# Altium schematic symbol library LogicalUnits.SchLib: 41 symbols
Pins are listed as number, name and electrical type; pins without a type are passive.

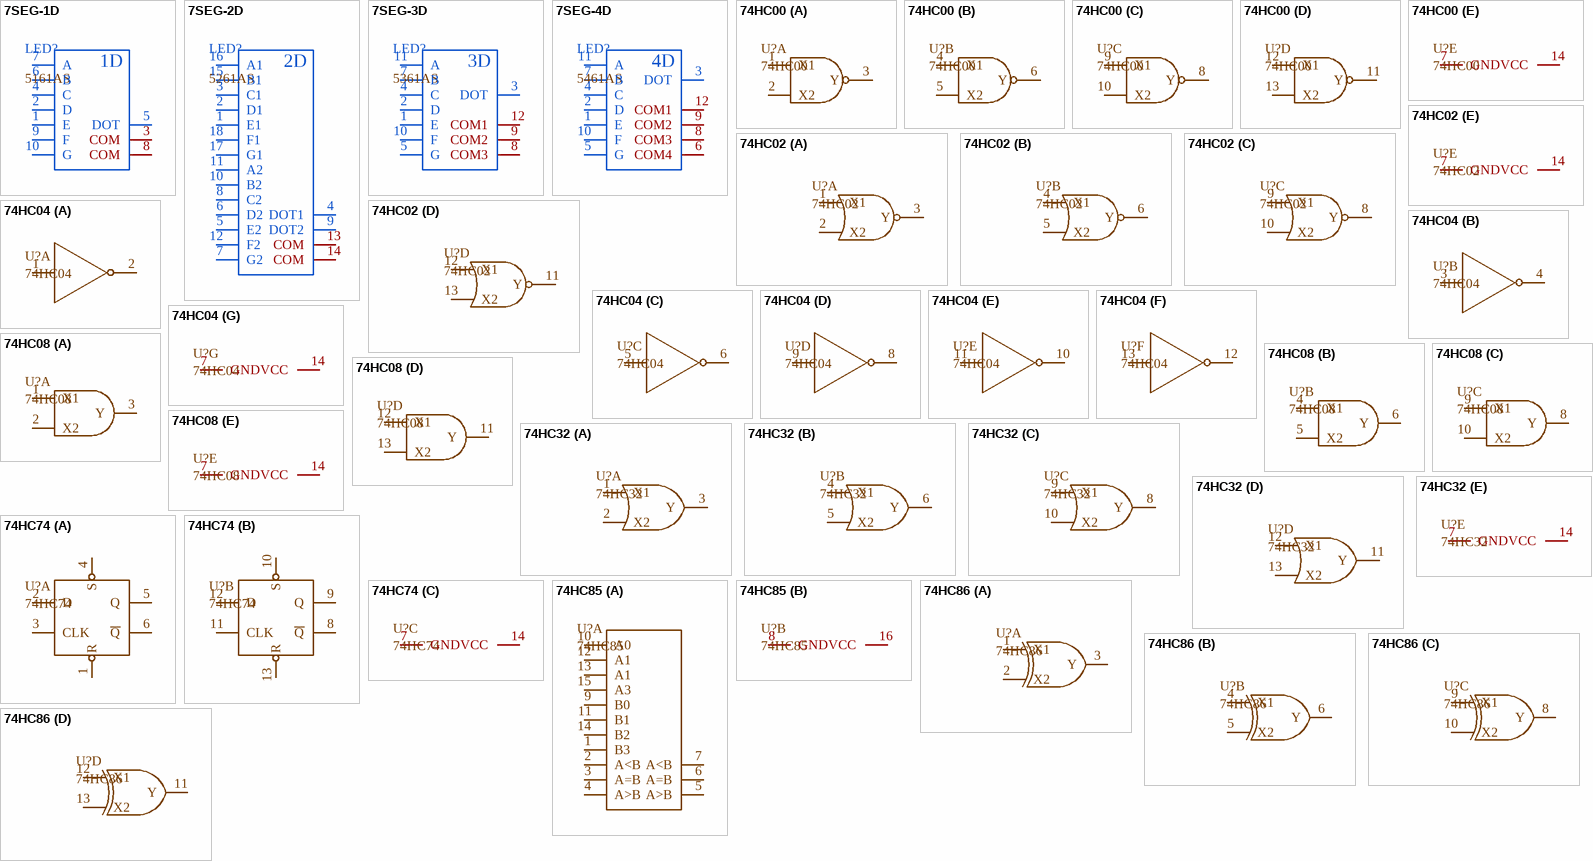
[diagram p0: symbols 7SEG-1D to 74HC86]

## 7SEG-1D
designator LED?, comment 5161AS
7SEG; Name: 5161AS; Case: DNP; Part Number: N/A
footprint 7SEG-0.56INCH-1D
pins: 1 E, 2 D, 3 COM, 4 C, 5 DOT, 6 B, 7 A, 8 COM, 9 F, 10 G
text: 1D

## 7SEG-2D
designator LED?, comment 5261AS
7SEG; Name: 5261AS; Case: DNP; Part Number: N/A
footprint 7SEG-0.56INCH-2D
pins: 1 E1, 2 D1, 3 C1, 4 DOT1, 5 E2, 6 D2, 7 G2, 8 C2, 9 DOT2, 10 B2, 11 A2, 12 F2, 13 COM, 14 COM, 15 B1, 16 A1, 17 G1, 18 F1
text: 2D

## 7SEG-3D
designator LED?, comment 5361AS
7SEG; Name: 5361AS; Case: DNP; Part Number: N/A
footprint 7SEG-0.56INCH-3D
pins: 1 E, 2 D, 3 DOT, 4 C, 5 G, 7 B, 8 COM3, 9 COM2, 10 F, 11 A, 12 COM1
text: 3D

## 7SEG-4D
designator LED?, comment 5461AS
7SEG; Name: 5461AS; Case: DNP; Part Number: N/A
footprint 7SEG-0.56INCH-4D
pins: 1 E, 2 D, 3 DOT, 4 C, 5 G, 6 COM4, 7 B, 8 COM3, 9 COM2, 10 F, 11 A, 12 COM1
text: 4D

## 74HC00
designator U?
NAND; Name: 74HC00; Case: DNP; Part Number: N/A
footprint SOIC14
footprint DIP14
part A pins: 1 X1, 2 X2, 3 Y
part B pins: 4 X1, 5 X2, 6 Y
part C pins: 8 Y, 9 X1, 10 X2
part D pins: 11 Y, 12 X1, 13 X2
part E pins: 7 GND, 14 VCC

## 74HC02
designator U?
NOR; Name: 74HC02; Case: DNP; Part Number: N/A
footprint SOIC14
footprint DIP14
part A pins: 1 X1, 2 X2, 3 Y
part B pins: 4 X1, 5 X2, 6 Y
part C pins: 8 Y, 9 X1, 10 X2
part D pins: 11 Y, 12 X1, 13 X2
part E pins: 7 GND, 14 VCC

## 74HC04
designator U?
NOT; Name: 74HC04; Case: DNP; Part Number: N/A
footprint SOIC14
footprint DIP14
part A pins: 1 X, 2 Y
part B pins: 3 X, 4 Y
part C pins: 5 X, 6 Y
part D pins: 8 Y, 9 X
part E pins: 10 Y, 11 X
part F pins: 12 Y, 13 X
part G pins: 7 GND, 14 VCC

## 74HC08
designator U?
AND; Name: 74HC08; Case: DNP; Part Number: N/A
footprint DIP14
footprint SOIC14
part A pins: 1 X1, 2 X2, 3 Y
part B pins: 4 X1, 5 X2, 6 Y
part C pins: 8 Y, 9 X1, 10 X2
part D pins: 11 Y, 12 X1, 13 X2
part E pins: 7 GND, 14 VCC

## 74HC32
designator U?
OR; Name: 74HC32; Case: DNP; Part Number: N/A
footprint SOIC14
footprint DIP14
part A pins: 1 X1, 2 X2, 3 Y
part B pins: 4 X1, 5 X2, 6 Y
part C pins: 8 Y, 9 X1, 10 X2
part D pins: 11 Y, 12 X1, 13 X2
part E pins: 7 GND, 14 VCC

## 74HC74
designator U?
TRIG; Name: 74HC74; Case: DNP; Part Number: N/A
footprint SOIC14
footprint DIP14
part A pins: 1 R, 2 D, 3 CLK, 4 S, 5 Q, 6 ~{Q}
part B pins: 8 ~{Q}, 9 Q, 10 S, 11 CLK, 12 D, 13 R
part C pins: 7 GND, 14 VCC

## 74HC85
designator U?
COMP; Name: 74HC85; Case: DNP; Part Number: N/A
footprint DIP16
footprint SOIC16
part A pins: 1 B3, 2 A<B, 3 A=B, 4 A>B, 5 A>B, 6 A=B, 7 A<B, 9 B0, 10 A0, 11 B1, 12 A1, 13 A1, 14 B2, 15 A3
part B pins: 8 GND, 16 VCC

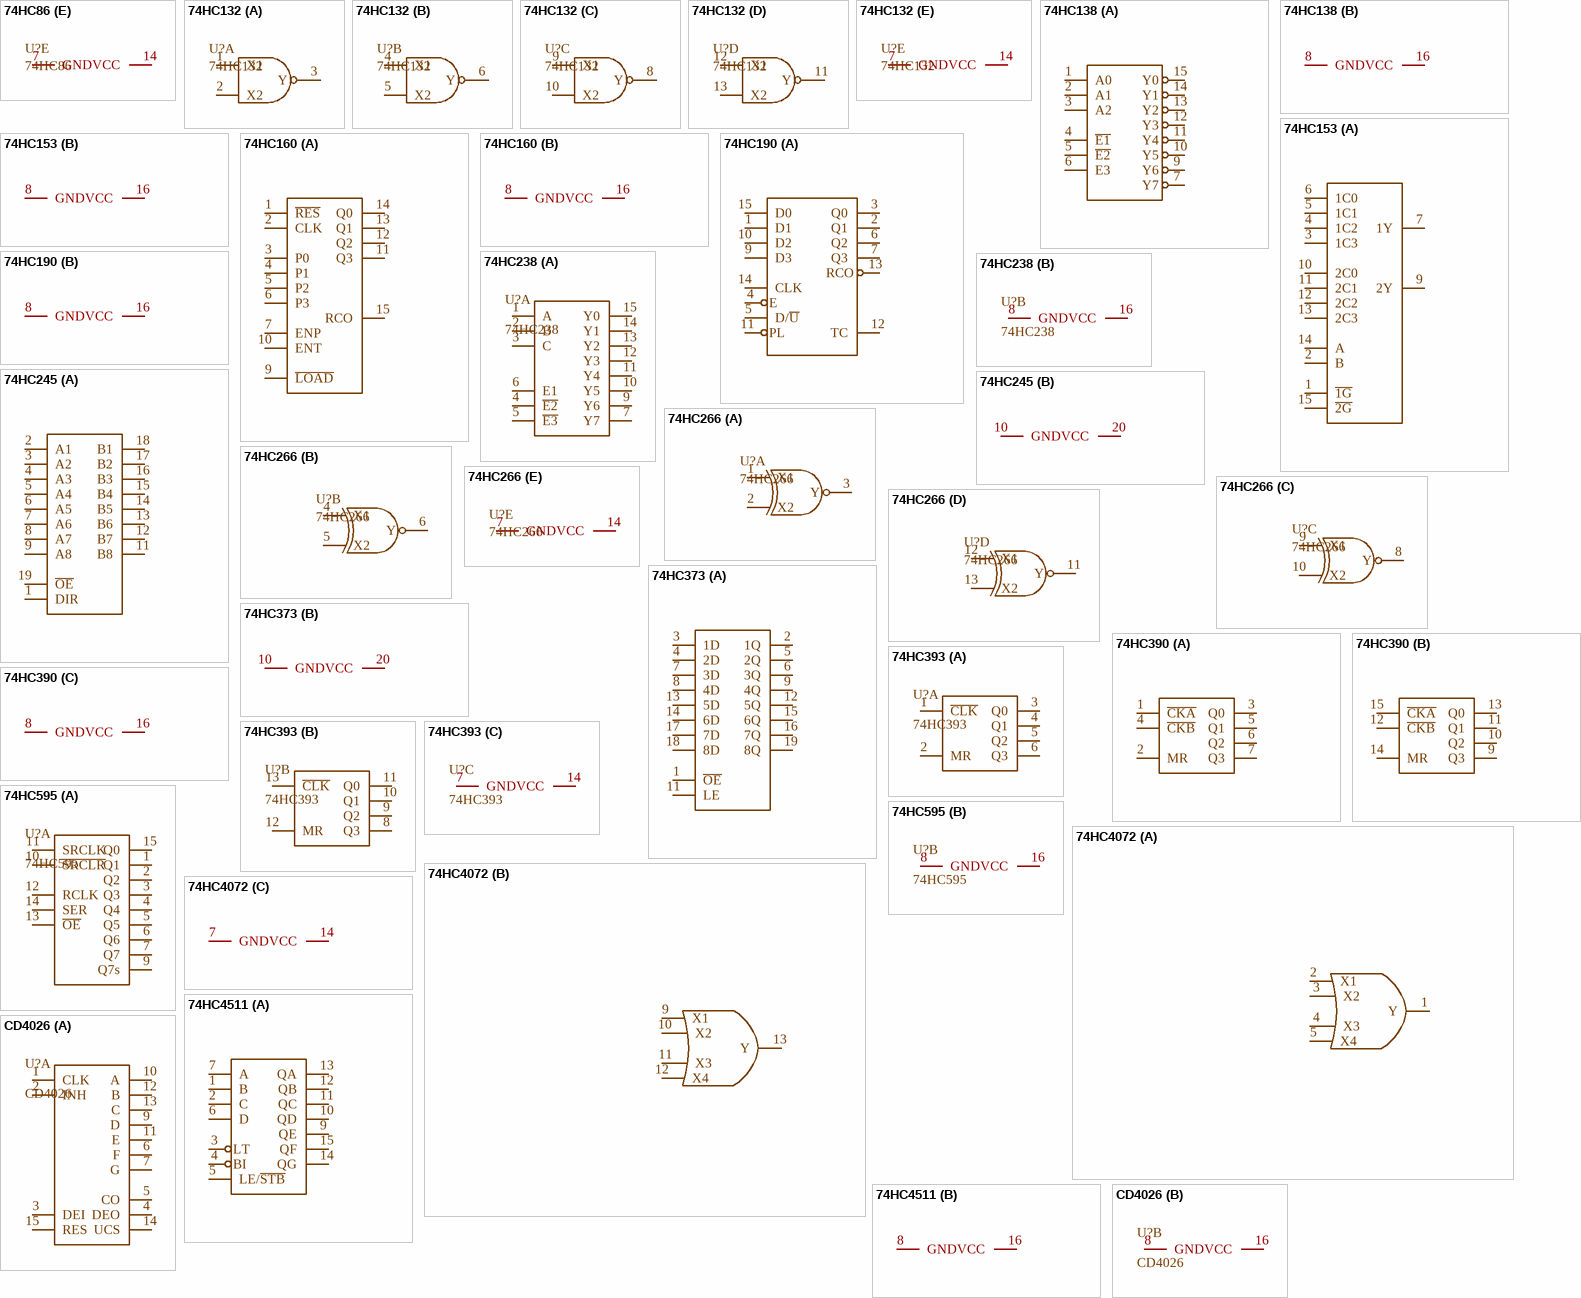
[diagram p1: symbols 74HC86 to CD4026]

## 74HC86
designator U?
XOR; Name: 74HC86; Case: DNP; Part Number: N/A
footprint SOIC14
footprint DIP14
part A pins: 1 X1, 2 X2, 3 Y
part B pins: 4 X1, 5 X2, 6 Y
part C pins: 8 Y, 9 X1, 10 X2
part D pins: 11 Y, 12 X1, 13 X2
part E pins: 7 GND, 14 VCC

## 74HC132
designator U?
NAND; Name: 74HC132; Case: DNP; Part Number: N/A
footprint SOIC14
footprint DIP14
part A pins: 1 X1, 2 X2, 3 Y
part B pins: 4 X1, 5 X2, 6 Y
part C pins: 8 Y, 9 X1, 10 X2
part D pins: 11 Y, 12 X1, 13 X2
part E pins: 7 GND, 14 VCC

## 74HC138
designator U?
DC; Name: 74HC138; Case: DNP; Part Number: N/A
footprint DIP16
footprint SOIC16
part A pins: 1 A0, 2 A1, 3 A2, 4 ~{E1}, 5 ~{E2}, 6 E3, 7 Y7, 9 Y6, 10 Y5, 11 Y4, 12 Y3, 13 Y2, 14 Y1, 15 Y0
part B pins: 8 GND, 16 VCC

## 74HC153
designator U?
MUX; Name: 74HC153; Case: DNP; Part Number: N/A
footprint SOIC16
footprint DIP16
part A pins: 1 ~{1G}, 2 B, 3 1C3, 4 1C2, 5 1C1, 6 1C0, 7 1Y, 9 2Y, 10 2C0, 11 2C1, 12 2C2, 13 2C3, 14 A, 15 ~{2G}
part B pins: 8 GND, 16 VCC

## 74HC160
designator U?
CNT; Name: 74HC160; Case: DNP; Part Number: N/A
footprint SOIC16
footprint DIP16
part A pins: 1 ~{RES}, 2 CLK, 3 P0, 4 P1, 5 P2, 6 P3, 7 ENP, 9 ~{LOAD}, 10 ENT, 11 Q3, 12 Q2, 13 Q1, 14 Q0, 15 RCO
part B pins: 8 GND, 16 VCC

## 74HC190
designator U?
CNT; Name: 74HC190; Case: DNP; Part Number: N/A
footprint SOIC16
footprint DIP16
part A pins: 1 D1, 2 Q1, 3 Q0, 4 E, 5 D/~{U}, 6 Q2, 7 Q3, 9 D3, 10 D2, 11 PL, 12 TC, 13 RCO, 14 CLK, 15 D0
part B pins: 8 GND, 16 VCC

## 74HC238
designator U?
DC; Name: 74HC238; Case: DNP; Part Number: N/A
footprint DIP16
footprint SOIC16
part A pins: 1 A, 2 B, 3 C, 4 ~{E2}, 5 ~{E3}, 6 E1, 7 Y7, 9 Y6, 10 Y5, 11 Y4, 12 Y3, 13 Y2, 14 Y1, 15 Y0
part B pins: 8 GND, 16 VCC

## 74HC245
designator U?
LAT; Name: 74HC245; Case: DNP; Part Number: N/A
footprint DIP20
footprint SOIC20 (Footprint not found)
footprint TSSOP20
part A pins: 1 DIR, 2 A1, 3 A2, 4 A3, 5 A4, 6 A5, 7 A6, 8 A7, 9 A8, 11 B8, 12 B7, 13 B6, 14 B5, 15 B4, 16 B3, 17 B2, 18 B1, 19 ~{OE}
part B pins: 10 GND, 20 VCC

## 74HC266
designator U?
NXOR; Name: 74HC266; Case: DNP; Part Number: N/A
footprint SOIC14
footprint DIP14
part A pins: 1 X1, 2 X2, 3 Y
part B pins: 4 X1, 5 X2, 6 Y
part C pins: 8 Y, 9 X1, 10 X2
part D pins: 11 Y, 12 X1, 13 X2
part E pins: 7 GND, 14 VCC

## 74HC373
designator U?
LAT; Name: 74HC373; Case: DNP; Part Number: N/A
footprint SOIC20 (Footprint not found)
footprint DIP20
footprint TSSOP20
part A pins: 1 ~{OE}, 2 1Q, 3 1D, 4 2D, 5 2Q, 6 3Q, 7 3D, 8 4D, 9 4Q, 11 LE, 12 5Q, 13 5D, 14 6D, 15 6Q, 16 7Q, 17 7D, 18 8D, 19 8Q
part B pins: 10 GND, 20 VCC

## 74HC390
designator U?
CNT; Name: 74HC390; Case: DNP; Part Number: N/A
footprint DIP16
footprint SOIC16
part A pins: 1 ~{CKA}, 2 MR, 3 Q0, 4 ~{CKB}, 5 Q1, 6 Q2, 7 Q3
part B pins: 9 Q3, 10 Q2, 11 Q1, 12 ~{CKB}, 13 Q0, 14 MR, 15 ~{CKA}
part C pins: 8 GND, 16 VCC

## 74HC393
designator U?
CNT; Name: 74HC393; Case: DNP; Part Number: N/A
footprint SOIC14
footprint DIP14
part A pins: 1 ~{CLK}, 2 MR, 3 Q0, 4 Q1, 5 Q2, 6 Q3
part B pins: 8 Q3, 9 Q2, 10 Q1, 11 Q0, 12 MR, 13 ~{CLK}
part C pins: 7 GND, 14 VCC

## 74HC595
designator U?
SREG; Name: 74HC595; Case: DNP; Part Number: N/A
footprint SOIC16
footprint DIP16
footprint TSSOP16
part A pins: 1 Q1, 2 Q2, 3 Q3, 4 Q4, 5 Q5, 6 Q6, 7 Q7, 9 Q7s, 10 ~{SRCLR}, 11 SRCLK, 12 RCLK, 13 ~{OE}, 14 SER, 15 Q0
part B pins: 8 GND, 16 VCC

## 74HC4072
designator U?
4-OR; Name: 74HC4072; Case: DNP; Part Number: N/A
footprint SOIC14
footprint DIP14
part A pins: 1 Y, 2 X1, 3 X2, 4 X3, 5 X4
part B pins: 9 X1, 10 X2, 11 X3, 12 X4, 13 Y
part C pins: 7 GND, 14 VCC

## 74HC4511
designator U?
DC; Name: 74HC4511; Case: DNP; Part Number: N/A
footprint DIP16
footprint SOIC16
part A pins: 1 B, 2 C, 3 LT, 4 BI, 5 LE/~{STB}, 6 D, 7 A, 9 QE, 10 QD, 11 QC, 12 QB, 13 QA, 14 QG, 15 QF
part B pins: 8 GND, 16 VCC

## CD4026
designator U?
DC; Name: CD4026; Case: DNP; Part Number: N/A
footprint DIP16
footprint SOIC16
part A pins: 1 CLK, 2 INH, 3 DEI, 4 DEO, 5 CO, 6 F, 7 G, 9 D, 10 A, 11 E, 12 B, 13 C, 14 UCS, 15 RES
part B pins: 8 GND, 16 VCC

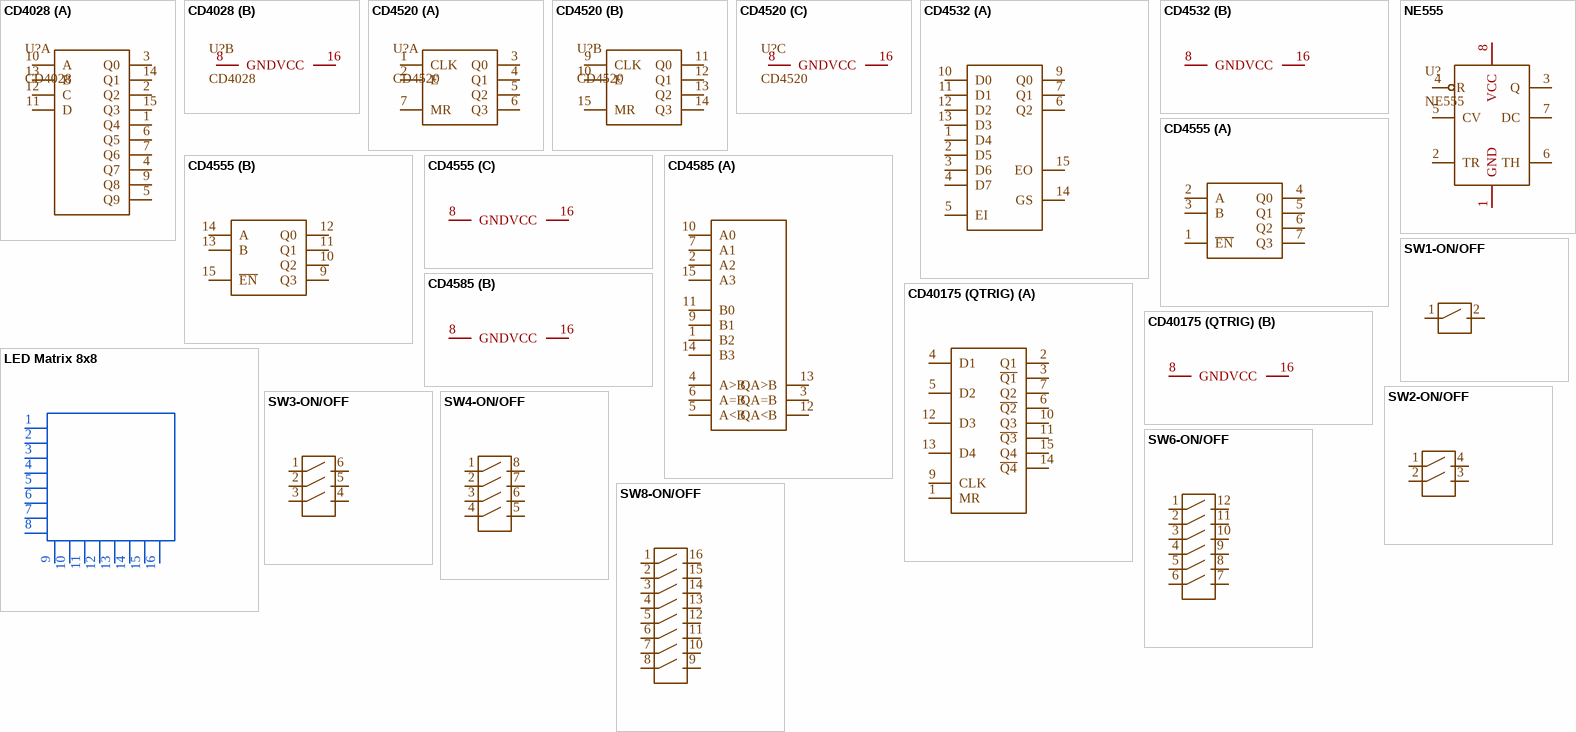
[diagram p2: symbols CD4028 to SW8-ON/OFF]

## CD4028
designator U?
DC; Name: CD4028; Case: DNP; Part Number: N/A
footprint DIP16
footprint SOIC16
part A pins: 1 Q4, 2 Q2, 3 Q0, 4 Q7, 5 Q9, 6 Q5, 7 Q6, 9 Q8, 10 A, 11 D, 12 C, 13 B, 14 Q1, 15 Q3
part B pins: 8 GND, 16 VCC

## CD4520
designator U?
CNT; Name: CD4520; Case: DNP; Part Number: N/A
footprint SOIC16
footprint DIP16
part A pins: 1 CLK, 2 E, 3 Q0, 4 Q1, 5 Q2, 6 Q3, 7 MR
part B pins: 9 CLK, 10 E, 11 Q0, 12 Q1, 13 Q2, 14 Q3, 15 MR
part C pins: 8 GND, 16 VCC

## CD4532
designator U?
INC; Name: CD4532; Case: DNP; Part Number: N/A
footprint SOIC16
footprint DIP16
part A pins: 1 D4, 2 D5, 3 D6, 4 D7, 5 EI, 6 Q2, 7 Q1, 9 Q0, 10 D0, 11 D1, 12 D2, 13 D3, 14 GS, 15 EO
part B pins: 8 GND, 16 VCC

## CD4555
designator U?
DC; Name: CD4555; Case: DNP; Part Number: N/A
footprint DIP16
footprint SOIC16
part A pins: 1 ~{EN}, 2 A, 3 B, 4 Q0, 5 Q1, 6 Q2, 7 Q3
part B pins: 9 Q3, 10 Q2, 11 Q1, 12 Q0, 13 B, 14 A, 15 ~{EN}
part C pins: 8 GND, 16 VCC

## CD4585
designator U?
COMP; Name: CD4585; Case: DNP; Part Number: N/A
footprint SOIC16
footprint DIP16
part A pins: 1 B2, 2 A2, 3 QA=B, 4 A>B, 5 A<B, 6 A=B, 7 A1, 9 B1, 10 A0, 11 B0, 12 QA<B, 13 QA>B, 14 B3, 15 A3
part B pins: 8 GND, 16 VCC

## CD40175 (QTRIG)
designator U?, comment CD40175
4-TRIG; Name: CD40175; Case: DNP; Part Number: N/A
footprint SOIC16
footprint DIP16
part A pins: 1 MR, 2 Q1, 3 ~{Q1}, 4 D1, 5 D2, 6 ~{Q2}, 7 Q2, 9 CLK, 10 Q3, 11 ~{Q3}, 12 D3, 13 D4, 14 ~{Q4}, 15 Q4
part B pins: 8 GND, 16 VCC

## LED Matrix 8x8
designator LED?, comment 1088AS
MTX; Name: 1088AS; Case: DNP; Part Number: N/A
footprint LED_MATRIX_8X8-32X32MM
footprint LED_MATRIX_8X8-38X38MM - duplicate
pins: 1, 2, 3, 4, 5, 6, 7, 8, 9, 10, 11, 12, 13, 14, 15, 16

## NE555
designator U?
GEN; Name: NE555; Case: DNP; Part Number: N/A
footprint SOIC8
footprint DIP8
pins: 1 GND, 2 TR, 3 Q, 4 R, 5 CV, 6 TH, 7 DC, 8 VCC

## SW1-ON/OFF
designator SW?, comment NDSR-01-V
SW; Name: NDSR-01-V; Case: DNP; Part Number: N/A
footprint DIP_SW1
pins: 1, 2

## SW2-ON/OFF
designator SW?, comment NDSR-02-V
SW; Name: NDSR-02-V; Case: DNP; Part Number: N/A
footprint DIP_SW2
pins: 1, 2, 3, 4

## SW3-ON/OFF
designator SW?, comment NDSR-03-V
SW; Name: NDSR-03-V; Case: DNP; Part Number: N/A
footprint DIP_SW3
pins: 1, 2, 3, 4, 5, 6

## SW4-ON/OFF
designator SW?, comment NDSR-04-V
SW; Name: NDSR-04-V; Case: DNP; Part Number: N/A
footprint DIP_SW4
pins: 1, 2, 3, 4, 5, 6, 7, 8

## SW6-ON/OFF
designator SW?, comment NDSR-06-V
SW; Name: NDSR-06-V; Case: DNP; Part Number: N/A
footprint DIP_SW6
pins: 1, 2, 3, 4, 5, 6, 7, 8, 9, 10, 11, 12

## SW8-ON/OFF
designator SW?, comment NDSR-08-V
SW; Name: NDSR-08-V; Case: DNP; Part Number: N/A
footprint DIP_SW8
pins: 1, 2, 3, 4, 5, 6, 7, 8, 9, 10, 11, 12, 13, 14, 15, 16